# Altium schematic symbol library Klinken-Buchse.SchLib: 5 symbols
Pins are listed as number, name and electrical type; pins without a type are passive.

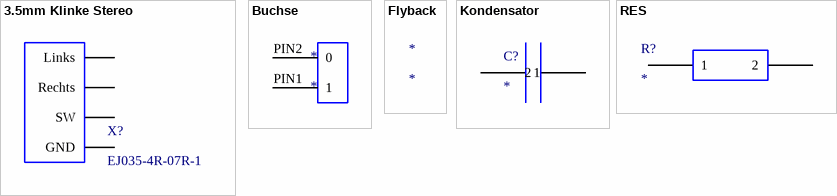
[diagram p0: symbols 3.5mm Klinke Stereo to RES]

## 3.5mm Klinke Stereo
designator X?, comment EJ035-4R-07R-1
HTL-Schnorr-Elektronik
footprint EJ035-4R-07R-1 (Footprint not found)
pins: GND, L Links, R Rechts, SW

## Buchse
designator *
footprint Buchse
pins: PIN1 1, PIN2 0

## Flyback
designator *

## Kondensator
designator C?
footprint Co
pins: PIN1 1, PIN2 2

## RES
designator R?
VALUE=: *
footprint PCBComponent_1
pins: PIN1 1, PIN2 2